# Altium footprint library L293D.PcbLib: 1 footprints
Each footprint in its own frame and in the unit in brackets; x right, y up, seen from the top. Pads: shape width x height; smd on the part's side, far side on the other; paste and mask are expansions set on the pad; w line width, h text height; cw(c..) or ccw(c..) is an arc to the next point about the centre after c.
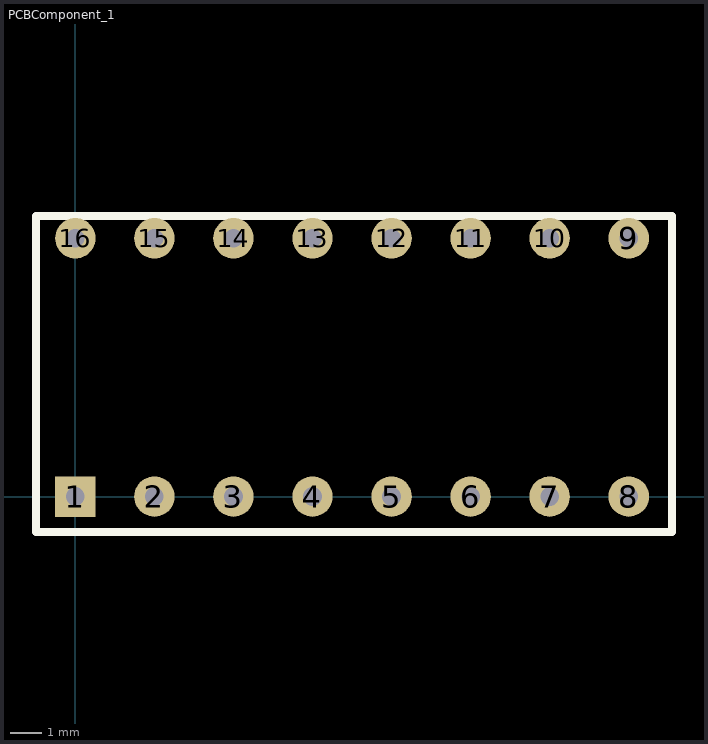
[diagram p0: the footprint, top view; thin cyan lines are the x and y axes]

## PCBComponent_1 [mm]
pads (16):
  rect 1.3x1.3 hole 0.6: 1(0,0)
  round 1.3 hole 0.6: 2(2.54,0) 3(5.08,0) 4(7.62,0) 5(10.16,0) 6(12.7,0) 7(15.24,0) 8(17.78,0) 9(17.78,8.3) 10(15.24,8.3) 11(12.7,8.3) 12(10.16,8.3) 13(7.62,8.3) 14(5.08,8.3) 15(2.54,8.3) 16(0,8.3)
Top Overlay:
  lines w0.254: -1.27,-1.143 19.177,-1.143 19.177,9.017 -1.27,9.017 -1.27,-1.143
3D body "DIP-16 N.step": height 4.1, standoff -3.25, extent -1.13,-0.377 18.91,8.759